# Altium schematic symbol library kmilo17pet-LT_PMIC_LT.SchLib: 2252 symbols (part 62 of 124)
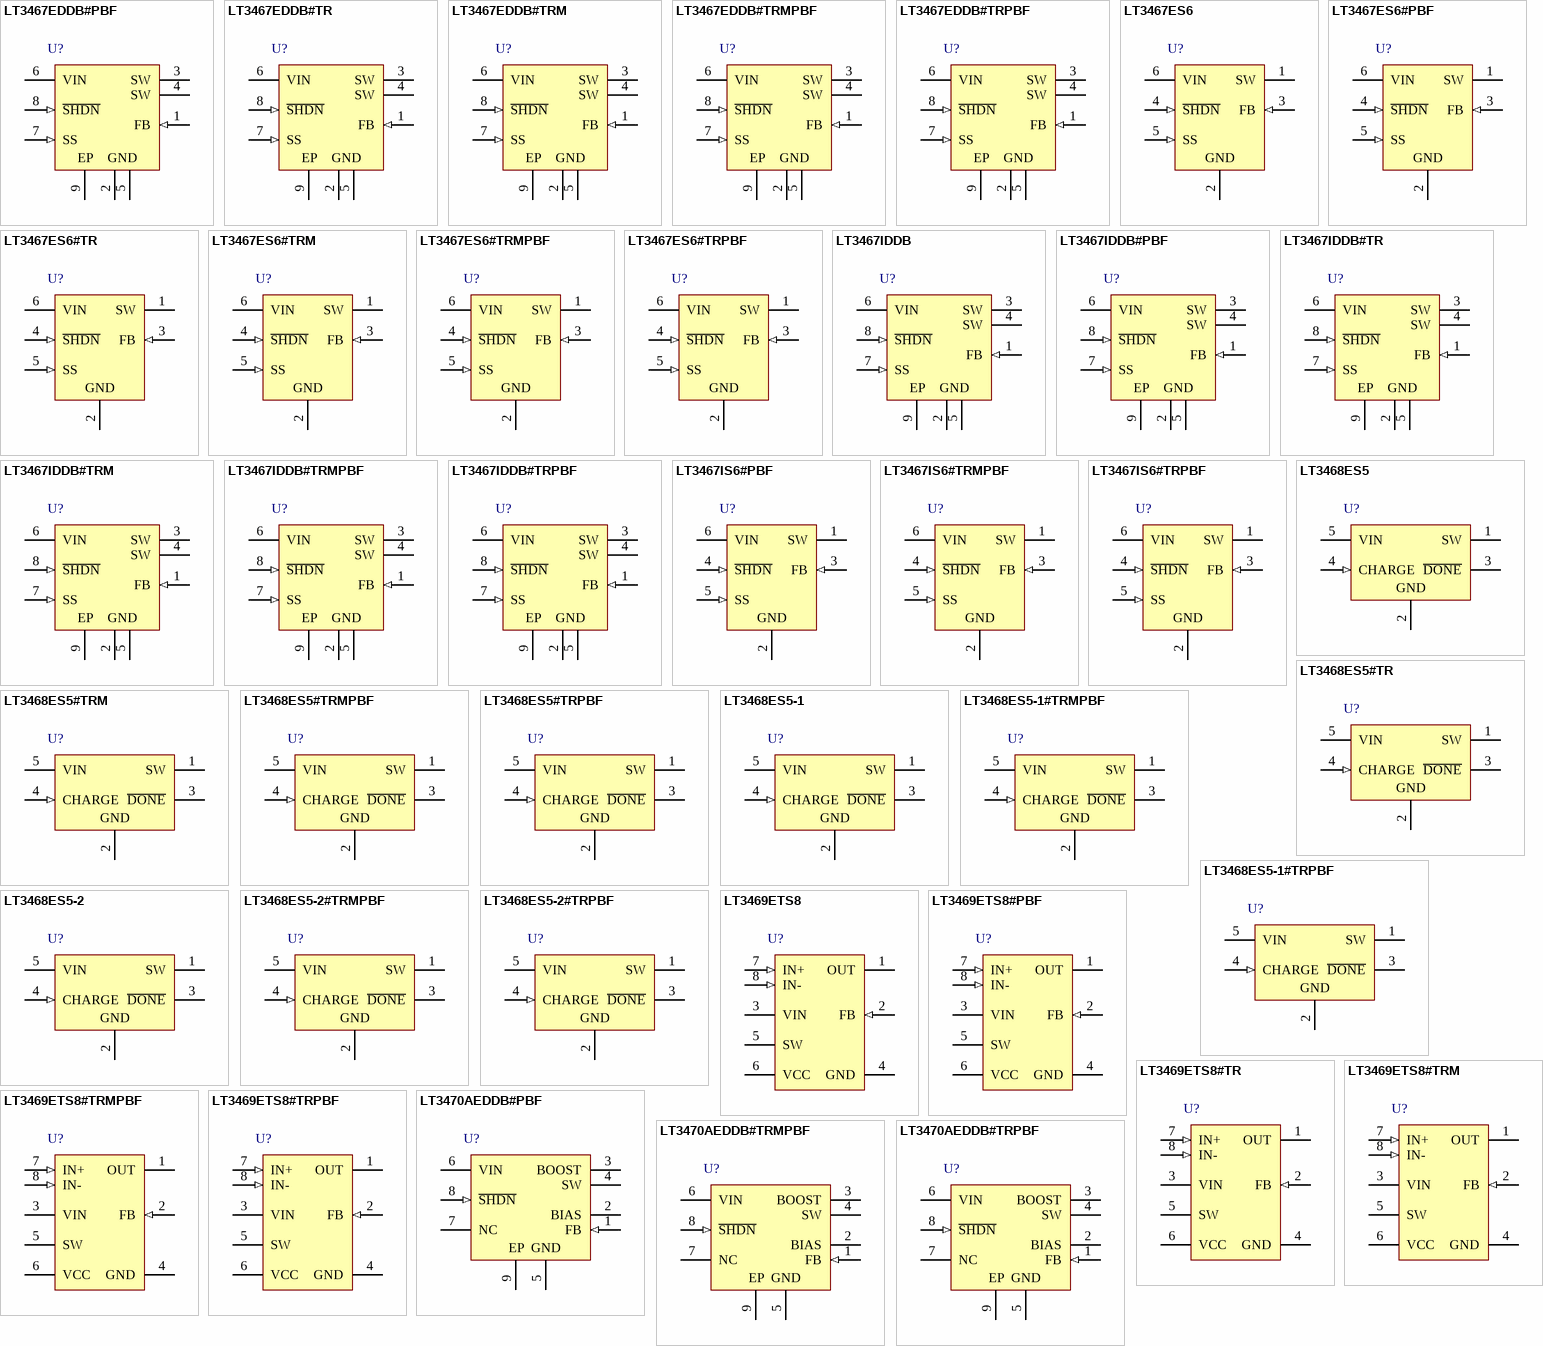
[diagram p132: symbols LT3467EDDB#PBF to LT3470AEDDB#TRPBF]

## LT3467ES6#TRPBF
designator U?
1.1 A Step-Up DC/DC Converter with Integrated Soft-Start MAX, 6-pin SOT23 (S6-6), -40 to 85 degC, Pb-Free, Tape and Reel; Manufacturer: Linear Technology; PartNumber: LT3467ES6#TRPBF; Number of Outputs: 1; PackageReference: S6-6; PackageDescription: 6-Pin Plastic TSOT-23, Body 2.9 x 1.63 mm, Pitch 0.95 mm; Supplier 1: Digi-Key; Supplier Part Number 1: LT3467ES6#TRPBF-ND; RoHS: TRUE
footprint LT-S6-6-TSOT-23_N (SOT23, 6-Leads, Body 2.9x1.75mm, Pitch 0.95mm, IPC Medium Density)
footprint LT-S6-6-TSOT-23_L (SOT23, 6-Leads, Body 2.9x1.75mm, Pitch 0.95mm, IPC High Density)
footprint LT-S6-6-TSOT-23_M (SOT23, 6-Leads, Body 2.9x1.75mm, Pitch 0.95mm, IPC Low Density)
pins: 1 SW (power) "Switch Pin. (Collector of internal NPN power switch) Connect inductor/diode here and minimize the metal trace area connected to this pin to minimize EMI.", 2 GND (power) "Ground. Tie directly to local ground plane.", 3 FB (in) "Feedback Pin. Reference voltage is 1.255V. Connect resistive divider tap here. Minimize trace area at FB. Set VOUT = 1.255V(1 + R1/R2).", 4 ~{SHDN} (in) "Shutdown Pin. Tie to 2.4V or more to enable device. Ground to shut down.", 5 SS (in) "Soft-Start Pin. Place a soft-start capacitor here. Upon start-up, 4uA of current charges the capacitor to 1.255V. Use a larger capacitor for slower start-up. Leave floating if not in use.", 6 VIN (power) "Input Supply Pin. Must be locally bypassed."

## LT3467IDDB
designator U?
1.1 A Step-Up DC/DC Converter with Integrated Soft-Start MAX, 8-pin SON (DDB-8), -40 to 125 degC; Manufacturer: Linear Technology; PartNumber: LT3467IDDB; Number of Outputs: 1; PackageReference: DDB-8; PackageDescription: 8-Pin Plastic DFN, Body 3 x 2 mm, Pitch 0.5 mm; RoHS: FALSE
footprint LT-DDB-8_V (SON, 8-Leads, Body 3x2mm, Pitch 0.5mm, Thermal Pad 2.2x0.61mm)
pins: 1 FB (in) "Feedback Pin. Reference voltage is 1.255V. Connect resistive divider tap here. Minimize trace area at  FB. Set VOUT = 1.255V(1 + R1/R2).", 2 GND (power) "Ground. Tie directly to local  ground plane.", 3 SW (power) "Switch Pin. (Collector of internal NPN power switch) Connect inductor/diode here and  minimize the metal trace area connected to this pin to minimize EMI.", 4 SW (power) "Switch Pin. (Collector of internal NPN power switch) Connect inductor/diode here and  minimize the metal trace area connected to this pin to minimize EMI.", 5 GND (power) "Ground. Tie directly to local  ground plane.", 6 VIN (power) "Input Supply Pin. Must be locally bypassed.", 7 SS (in) "Soft-Start Pin. Place a soft-start capacitor here. Upon start-up, 4uA of current charges the capacitor to 1.255V. Use a larger capacitor for slower start-up. Leave floating if not in use.", 8 ~{SHDN} (in) "Shutdown Pin. Tie to 2.4V or more to enable device. Ground to shut down.", 9 EP (power) "Ground. Tie directly to local ground plane."

## LT3467IDDB#PBF
designator U?
1.1 A Step-Up DC/DC Converter with Integrated Soft-Start MAX, 8-pin SON (DDB-8), -40 to 125 degC, Pb-Free; Manufacturer: Linear Technology; PartNumber: LT3467IDDB#PBF; Number of Outputs: 1; PackageReference: DDB-8; PackageDescription: 8-Pin Plastic DFN, Body 3 x 2 mm, Pitch 0.5 mm; Supplier 1: Farnell; Supplier Part Number 1: 2294901; RoHS: TRUE
footprint LT-DDB-8_V (SON, 8-Leads, Body 3x2mm, Pitch 0.5mm, Thermal Pad 2.2x0.61mm)
pins: 1 FB (in) "Feedback Pin. Reference voltage is 1.255V. Connect resistive divider tap here. Minimize trace area at  FB. Set VOUT = 1.255V(1 + R1/R2).", 2 GND (power) "Ground. Tie directly to local  ground plane.", 3 SW (power) "Switch Pin. (Collector of internal NPN power switch) Connect inductor/diode here and  minimize the metal trace area connected to this pin to minimize EMI.", 4 SW (power) "Switch Pin. (Collector of internal NPN power switch) Connect inductor/diode here and  minimize the metal trace area connected to this pin to minimize EMI.", 5 GND (power) "Ground. Tie directly to local  ground plane.", 6 VIN (power) "Input Supply Pin. Must be locally bypassed.", 7 SS (in) "Soft-Start Pin. Place a soft-start capacitor here. Upon start-up, 4uA of current charges the capacitor to 1.255V. Use a larger capacitor for slower start-up. Leave floating if not in use.", 8 ~{SHDN} (in) "Shutdown Pin. Tie to 2.4V or more to enable device. Ground to shut down.", 9 EP (power) "Ground. Tie directly to local ground plane."

## LT3467IDDB#TR
designator U?
1.1 A Step-Up DC/DC Converter with Integrated Soft-Start MAX, 8-pin SON (DDB-8), -40 to 125 degC, Tape and Reel; Manufacturer: Linear Technology; PartNumber: LT3467IDDB#TR; Number of Outputs: 1; PackageReference: DDB-8; PackageDescription: 8-Pin Plastic DFN, Body 3 x 2 mm, Pitch 0.5 mm; RoHS: FALSE
footprint LT-DDB-8_V (SON, 8-Leads, Body 3x2mm, Pitch 0.5mm, Thermal Pad 2.2x0.61mm)
pins: 1 FB (in) "Feedback Pin. Reference voltage is 1.255V. Connect resistive divider tap here. Minimize trace area at  FB. Set VOUT = 1.255V(1 + R1/R2).", 2 GND (power) "Ground. Tie directly to local  ground plane.", 3 SW (power) "Switch Pin. (Collector of internal NPN power switch) Connect inductor/diode here and  minimize the metal trace area connected to this pin to minimize EMI.", 4 SW (power) "Switch Pin. (Collector of internal NPN power switch) Connect inductor/diode here and  minimize the metal trace area connected to this pin to minimize EMI.", 5 GND (power) "Ground. Tie directly to local  ground plane.", 6 VIN (power) "Input Supply Pin. Must be locally bypassed.", 7 SS (in) "Soft-Start Pin. Place a soft-start capacitor here. Upon start-up, 4uA of current charges the capacitor to 1.255V. Use a larger capacitor for slower start-up. Leave floating if not in use.", 8 ~{SHDN} (in) "Shutdown Pin. Tie to 2.4V or more to enable device. Ground to shut down.", 9 EP (power) "Ground. Tie directly to local ground plane."

## LT3467IDDB#TRM
designator U?
1.1 A Step-Up DC/DC Converter with Integrated Soft-Start MAX, 8-pin SON (DDB-8), -40 to 125 degC, Mini Tape and Reel; Manufacturer: Linear Technology; PartNumber: LT3467IDDB#TRM; Number of Outputs: 1; PackageReference: DDB-8; PackageDescription: 8-Pin Plastic DFN, Body 3 x 2 mm, Pitch 0.5 mm; RoHS: FALSE
footprint LT-DDB-8_V (SON, 8-Leads, Body 3x2mm, Pitch 0.5mm, Thermal Pad 2.2x0.61mm)
pins: 1 FB (in) "Feedback Pin. Reference voltage is 1.255V. Connect resistive divider tap here. Minimize trace area at  FB. Set VOUT = 1.255V(1 + R1/R2).", 2 GND (power) "Ground. Tie directly to local  ground plane.", 3 SW (power) "Switch Pin. (Collector of internal NPN power switch) Connect inductor/diode here and  minimize the metal trace area connected to this pin to minimize EMI.", 4 SW (power) "Switch Pin. (Collector of internal NPN power switch) Connect inductor/diode here and  minimize the metal trace area connected to this pin to minimize EMI.", 5 GND (power) "Ground. Tie directly to local  ground plane.", 6 VIN (power) "Input Supply Pin. Must be locally bypassed.", 7 SS (in) "Soft-Start Pin. Place a soft-start capacitor here. Upon start-up, 4uA of current charges the capacitor to 1.255V. Use a larger capacitor for slower start-up. Leave floating if not in use.", 8 ~{SHDN} (in) "Shutdown Pin. Tie to 2.4V or more to enable device. Ground to shut down.", 9 EP (power) "Ground. Tie directly to local ground plane."

## LT3467IDDB#TRMPBF
designator U?
1.1 A Step-Up DC/DC Converter with Integrated Soft-Start MAX, 8-pin SON (DDB-8), -40 to 125 degC, Pb-Free, Mini Tape and Reel; Manufacturer: Linear Technology; PartNumber: LT3467IDDB#TRMPBF; Number of Outputs: 1; PackageReference: DDB-8; PackageDescription: 8-Pin Plastic DFN, Body 3 x 2 mm, Pitch 0.5 mm; Supplier 1: Digi-Key; Supplier Part Number 1: LT3467IDDB#TRMPBF-ND; RoHS: TRUE
footprint LT-DDB-8_V (SON, 8-Leads, Body 3x2mm, Pitch 0.5mm, Thermal Pad 2.2x0.61mm)
pins: 1 FB (in) "Feedback Pin. Reference voltage is 1.255V. Connect resistive divider tap here. Minimize trace area at  FB. Set VOUT = 1.255V(1 + R1/R2).", 2 GND (power) "Ground. Tie directly to local  ground plane.", 3 SW (power) "Switch Pin. (Collector of internal NPN power switch) Connect inductor/diode here and  minimize the metal trace area connected to this pin to minimize EMI.", 4 SW (power) "Switch Pin. (Collector of internal NPN power switch) Connect inductor/diode here and  minimize the metal trace area connected to this pin to minimize EMI.", 5 GND (power) "Ground. Tie directly to local  ground plane.", 6 VIN (power) "Input Supply Pin. Must be locally bypassed.", 7 SS (in) "Soft-Start Pin. Place a soft-start capacitor here. Upon start-up, 4uA of current charges the capacitor to 1.255V. Use a larger capacitor for slower start-up. Leave floating if not in use.", 8 ~{SHDN} (in) "Shutdown Pin. Tie to 2.4V or more to enable device. Ground to shut down.", 9 EP (power) "Ground. Tie directly to local ground plane."

## LT3467IDDB#TRPBF
designator U?
1.1 A Step-Up DC/DC Converter with Integrated Soft-Start MAX, 8-pin SON (DDB-8), -40 to 125 degC, Pb-Free, Tape and Reel; Manufacturer: Linear Technology; PartNumber: LT3467IDDB#TRPBF; Number of Outputs: 1; PackageReference: DDB-8; PackageDescription: 8-Pin Plastic DFN, Body 3 x 2 mm, Pitch 0.5 mm; Supplier 1: Digi-Key; Supplier Part Number 1: LT3467IDDB#TRPBF-ND; RoHS: TRUE
footprint LT-DDB-8_V (SON, 8-Leads, Body 3x2mm, Pitch 0.5mm, Thermal Pad 2.2x0.61mm)
pins: 1 FB (in) "Feedback Pin. Reference voltage is 1.255V. Connect resistive divider tap here. Minimize trace area at  FB. Set VOUT = 1.255V(1 + R1/R2).", 2 GND (power) "Ground. Tie directly to local  ground plane.", 3 SW (power) "Switch Pin. (Collector of internal NPN power switch) Connect inductor/diode here and  minimize the metal trace area connected to this pin to minimize EMI.", 4 SW (power) "Switch Pin. (Collector of internal NPN power switch) Connect inductor/diode here and  minimize the metal trace area connected to this pin to minimize EMI.", 5 GND (power) "Ground. Tie directly to local  ground plane.", 6 VIN (power) "Input Supply Pin. Must be locally bypassed.", 7 SS (in) "Soft-Start Pin. Place a soft-start capacitor here. Upon start-up, 4uA of current charges the capacitor to 1.255V. Use a larger capacitor for slower start-up. Leave floating if not in use.", 8 ~{SHDN} (in) "Shutdown Pin. Tie to 2.4V or more to enable device. Ground to shut down.", 9 EP (power) "Ground. Tie directly to local ground plane."

## LT3467IS6#PBF
designator U?
1.1 A Step-Up DC/DC Converter with Integrated Soft-Start MAX, 6-pin SOT23 (S6-6), -40 to 125 degC, Pb-Free; Manufacturer: Linear Technology; PartNumber: LT3467IS6#PBF; Number of Outputs: 1; PackageReference: S6-6; PackageDescription: 6-Pin Plastic TSOT-23, Body 2.9 x 1.63 mm, Pitch 0.95 mm; Supplier 1: Farnell; Supplier Part Number 1: 2294902; RoHS: TRUE
footprint LT-S6-6-TSOT-23_N (SOT23, 6-Leads, Body 2.9x1.75mm, Pitch 0.95mm, IPC Medium Density)
footprint LT-S6-6-TSOT-23_L (SOT23, 6-Leads, Body 2.9x1.75mm, Pitch 0.95mm, IPC High Density)
footprint LT-S6-6-TSOT-23_M (SOT23, 6-Leads, Body 2.9x1.75mm, Pitch 0.95mm, IPC Low Density)
pins: 1 SW (power) "Switch Pin. (Collector of internal NPN power switch) Connect inductor/diode here and minimize the metal trace area connected to this pin to minimize EMI.", 2 GND (power) "Ground. Tie directly to local ground plane.", 3 FB (in) "Feedback Pin. Reference voltage is 1.255V. Connect resistive divider tap here. Minimize trace area at FB. Set VOUT = 1.255V(1 + R1/R2).", 4 ~{SHDN} (in) "Shutdown Pin. Tie to 2.4V or more to enable device. Ground to shut down.", 5 SS (in) "Soft-Start Pin. Place a soft-start capacitor here. Upon start-up, 4uA of current charges the capacitor to 1.255V. Use a larger capacitor for slower start-up. Leave floating if not in use.", 6 VIN (power) "Input Supply Pin. Must be locally bypassed."

## LT3467IS6#TRMPBF
designator U?
1.1 A Step-Up DC/DC Converter with Integrated Soft-Start MAX, 6-pin SOT23 (S6-6), -40 to 125 degC, Pb-Free, Mini Tape and Reel; Manufacturer: Linear Technology; PartNumber: LT3467IS6#TRMPBF; Number of Outputs: 1; PackageReference: S6-6; PackageDescription: 6-Pin Plastic TSOT-23, Body 2.9 x 1.63 mm, Pitch 0.95 mm; Supplier 1: Digi-Key; Supplier Part Number 1: LT3467IS6#TRMPBFTR-ND; RoHS: TRUE
footprint LT-S6-6-TSOT-23_N (SOT23, 6-Leads, Body 2.9x1.75mm, Pitch 0.95mm, IPC Medium Density)
footprint LT-S6-6-TSOT-23_L (SOT23, 6-Leads, Body 2.9x1.75mm, Pitch 0.95mm, IPC High Density)
footprint LT-S6-6-TSOT-23_M (SOT23, 6-Leads, Body 2.9x1.75mm, Pitch 0.95mm, IPC Low Density)
pins: 1 SW (power) "Switch Pin. (Collector of internal NPN power switch) Connect inductor/diode here and minimize the metal trace area connected to this pin to minimize EMI.", 2 GND (power) "Ground. Tie directly to local ground plane.", 3 FB (in) "Feedback Pin. Reference voltage is 1.255V. Connect resistive divider tap here. Minimize trace area at FB. Set VOUT = 1.255V(1 + R1/R2).", 4 ~{SHDN} (in) "Shutdown Pin. Tie to 2.4V or more to enable device. Ground to shut down.", 5 SS (in) "Soft-Start Pin. Place a soft-start capacitor here. Upon start-up, 4uA of current charges the capacitor to 1.255V. Use a larger capacitor for slower start-up. Leave floating if not in use.", 6 VIN (power) "Input Supply Pin. Must be locally bypassed."

## LT3467IS6#TRPBF
designator U?
1.1 A Step-Up DC/DC Converter with Integrated Soft-Start MAX, 6-pin SOT23 (S6-6), -40 to 125 degC, Pb-Free, Tape and Reel; Manufacturer: Linear Technology; PartNumber: LT3467IS6#TRPBF; Number of Outputs: 1; PackageReference: S6-6; PackageDescription: 6-Pin Plastic TSOT-23, Body 2.9 x 1.63 mm, Pitch 0.95 mm; Supplier 1: Digi-Key; Supplier Part Number 1: LT3467IS6#TRPBF-ND; RoHS: TRUE
footprint LT-S6-6-TSOT-23_N (SOT23, 6-Leads, Body 2.9x1.75mm, Pitch 0.95mm, IPC Medium Density)
footprint LT-S6-6-TSOT-23_L (SOT23, 6-Leads, Body 2.9x1.75mm, Pitch 0.95mm, IPC High Density)
footprint LT-S6-6-TSOT-23_M (SOT23, 6-Leads, Body 2.9x1.75mm, Pitch 0.95mm, IPC Low Density)
pins: 1 SW (power) "Switch Pin. (Collector of internal NPN power switch) Connect inductor/diode here and minimize the metal trace area connected to this pin to minimize EMI.", 2 GND (power) "Ground. Tie directly to local ground plane.", 3 FB (in) "Feedback Pin. Reference voltage is 1.255V. Connect resistive divider tap here. Minimize trace area at FB. Set VOUT = 1.255V(1 + R1/R2).", 4 ~{SHDN} (in) "Shutdown Pin. Tie to 2.4V or more to enable device. Ground to shut down.", 5 SS (in) "Soft-Start Pin. Place a soft-start capacitor here. Upon start-up, 4uA of current charges the capacitor to 1.255V. Use a larger capacitor for slower start-up. Leave floating if not in use.", 6 VIN (power) "Input Supply Pin. Must be locally bypassed."

## LT3468ES5
designator U?
Photoflash Capacitor Charger, 5-pin SOT23 (S5-5), -40 to 85 degC; Manufacturer: Linear Technology; PartNumber: LT3468ES5; Number of Outputs: 1; PackageReference: S5-5; PackageDescription: 5-Pin Plastic TSOT-23, Body 1.63 x 2.90 mm, Pitch 0.95 mm; RoHS: FALSE
footprint LT-S5-5-TSOT-23_N (SOT23, 5-Leads, Body 2.90x1.63mm, Pitch 0.95mm, IPC Medium Density)
footprint LT-S5-5-TSOT-23_L (SOT23, 5-Leads, Body 2.90x1.63mm, Pitch 0.95mm, IPC High Density)
footprint LT-S5-5-TSOT-23_M (SOT23, 5-Leads, Body 2.90x1.63mm, Pitch 0.95mm, IPC Low Density)
pins: 1 SW (power) "Switch Pin. This is the collector of the internal NPN Power switch. Minimize the metal trace area connected to this pin to minimize EMI. Tie one side of the primary of the transformer to this pin. The target output voltage (See Datasheet)", 2 GND (power) "Ground. Tie directly to local ground plane", 3 ~{DONE} (oc) "Open NPN Collector Indication Pin. When target output voltage is reached, NPN turns on. This pin needs a pull-up resistor or current source", 4 CHARGE (in) "Charge Pin. This pin must be brought high (>1V) to enable the part. A low (<0.3V) to high (>1V) transition on this pin puts the part into power delivery mode. Once the target output voltage is reached, the part will stop (See Datasheet)", 5 VIN (power) "Input Supply Pin. Must be locally bypassed with a good quality ceramic capacitor. Input supply must be 2.5V or higher."

## LT3468ES5#TR
designator U?
Photoflash Capacitor Charger, 5-pin SOT23 (S5-5), -40 to 85 degC, Tape and Reel; Manufacturer: Linear Technology; PartNumber: LT3468ES5#TR; Number of Outputs: 1; PackageReference: S5-5; PackageDescription: 5-Pin Plastic TSOT-23, Body 1.63 x 2.90 mm, Pitch 0.95 mm; Supplier 1: Digi-Key; Supplier Part Number 1: LT3468ES5#TR-ND; RoHS: FALSE
footprint LT-S5-5-TSOT-23_N (SOT23, 5-Leads, Body 2.90x1.63mm, Pitch 0.95mm, IPC Medium Density)
footprint LT-S5-5-TSOT-23_L (SOT23, 5-Leads, Body 2.90x1.63mm, Pitch 0.95mm, IPC High Density)
footprint LT-S5-5-TSOT-23_M (SOT23, 5-Leads, Body 2.90x1.63mm, Pitch 0.95mm, IPC Low Density)
pins: 1 SW (power) "Switch Pin. This is the collector of the internal NPN Power switch. Minimize the metal trace area connected to this pin to minimize EMI. Tie one side of the primary of the transformer to this pin. The target output voltage (See Datasheet)", 2 GND (power) "Ground. Tie directly to local ground plane", 3 ~{DONE} (oc) "Open NPN Collector Indication Pin. When target output voltage is reached, NPN turns on. This pin needs a pull-up resistor or current source", 4 CHARGE (in) "Charge Pin. This pin must be brought high (>1V) to enable the part. A low (<0.3V) to high (>1V) transition on this pin puts the part into power delivery mode. Once the target output voltage is reached, the part will stop (See Datasheet)", 5 VIN (power) "Input Supply Pin. Must be locally bypassed with a good quality ceramic capacitor. Input supply must be 2.5V or higher."

## LT3468ES5#TRM
designator U?
Photoflash Capacitor Charger, 5-pin SOT23 (S5-5), -40 to 85 degC, Mini Tape and Reel; Manufacturer: Linear Technology; PartNumber: LT3468ES5#TRM; Number of Outputs: 1; PackageReference: S5-5; PackageDescription: 5-Pin Plastic TSOT-23, Body 1.63 x 2.90 mm, Pitch 0.95 mm; Supplier 1: Digi-Key; Supplier Part Number 1: LT3468ES5#TRMTR-ND; RoHS: FALSE
footprint LT-S5-5-TSOT-23_N (SOT23, 5-Leads, Body 2.90x1.63mm, Pitch 0.95mm, IPC Medium Density)
footprint LT-S5-5-TSOT-23_L (SOT23, 5-Leads, Body 2.90x1.63mm, Pitch 0.95mm, IPC High Density)
footprint LT-S5-5-TSOT-23_M (SOT23, 5-Leads, Body 2.90x1.63mm, Pitch 0.95mm, IPC Low Density)
pins: 1 SW (power) "Switch Pin. This is the collector of the internal NPN Power switch. Minimize the metal trace area connected to this pin to minimize EMI. Tie one side of the primary of the transformer to this pin. The target output voltage (See Datasheet)", 2 GND (power) "Ground. Tie directly to local ground plane", 3 ~{DONE} (oc) "Open NPN Collector Indication Pin. When target output voltage is reached, NPN turns on. This pin needs a pull-up resistor or current source", 4 CHARGE (in) "Charge Pin. This pin must be brought high (>1V) to enable the part. A low (<0.3V) to high (>1V) transition on this pin puts the part into power delivery mode. Once the target output voltage is reached, the part will stop (See Datasheet)", 5 VIN (power) "Input Supply Pin. Must be locally bypassed with a good quality ceramic capacitor. Input supply must be 2.5V or higher."

## LT3468ES5#TRMPBF
designator U?
Photoflash Capacitor Charger, 5-pin SOT23 (S5-5), -40 to 85 degC, Pb-Free, Mini Tape and Reel; Manufacturer: Linear Technology; PartNumber: LT3468ES5#TRMPBF; Number of Outputs: 1; PackageReference: S5-5; PackageDescription: 5-Pin Plastic TSOT-23, Body 1.63 x 2.90 mm, Pitch 0.95 mm; Supplier 1: Digi-Key; Supplier Part Number 1: LT3468ES5#TRMPBFTR-ND; RoHS: TRUE
footprint LT-S5-5-TSOT-23_N (SOT23, 5-Leads, Body 2.90x1.63mm, Pitch 0.95mm, IPC Medium Density)
footprint LT-S5-5-TSOT-23_L (SOT23, 5-Leads, Body 2.90x1.63mm, Pitch 0.95mm, IPC High Density)
footprint LT-S5-5-TSOT-23_M (SOT23, 5-Leads, Body 2.90x1.63mm, Pitch 0.95mm, IPC Low Density)
pins: 1 SW (power) "Switch Pin. This is the collector of the internal NPN Power switch. Minimize the metal trace area connected to this pin to minimize EMI. Tie one side of the primary of the transformer to this pin. The target output voltage (See Datasheet)", 2 GND (power) "Ground. Tie directly to local ground plane", 3 ~{DONE} (oc) "Open NPN Collector Indication Pin. When target output voltage is reached, NPN turns on. This pin needs a pull-up resistor or current source", 4 CHARGE (in) "Charge Pin. This pin must be brought high (>1V) to enable the part. A low (<0.3V) to high (>1V) transition on this pin puts the part into power delivery mode. Once the target output voltage is reached, the part will stop (See Datasheet)", 5 VIN (power) "Input Supply Pin. Must be locally bypassed with a good quality ceramic capacitor. Input supply must be 2.5V or higher."

## LT3468ES5#TRPBF
designator U?
Photoflash Capacitor Charger, 5-pin SOT23 (S5-5), -40 to 85 degC, Pb-Free, Tape and Reel; Manufacturer: Linear Technology; PartNumber: LT3468ES5#TRPBF; Number of Outputs: 1; PackageReference: S5-5; PackageDescription: 5-Pin Plastic TSOT-23, Body 1.63 x 2.90 mm, Pitch 0.95 mm; Supplier 1: Digi-Key; Supplier Part Number 1: LT3468ES5#TRPBF-ND; RoHS: TRUE
footprint LT-S5-5-TSOT-23_N (SOT23, 5-Leads, Body 2.90x1.63mm, Pitch 0.95mm, IPC Medium Density)
footprint LT-S5-5-TSOT-23_L (SOT23, 5-Leads, Body 2.90x1.63mm, Pitch 0.95mm, IPC High Density)
footprint LT-S5-5-TSOT-23_M (SOT23, 5-Leads, Body 2.90x1.63mm, Pitch 0.95mm, IPC Low Density)
pins: 1 SW (power) "Switch Pin. This is the collector of the internal NPN Power switch. Minimize the metal trace area connected to this pin to minimize EMI. Tie one side of the primary of the transformer to this pin. The target output voltage (See Datasheet)", 2 GND (power) "Ground. Tie directly to local ground plane", 3 ~{DONE} (oc) "Open NPN Collector Indication Pin. When target output voltage is reached, NPN turns on. This pin needs a pull-up resistor or current source", 4 CHARGE (in) "Charge Pin. This pin must be brought high (>1V) to enable the part. A low (<0.3V) to high (>1V) transition on this pin puts the part into power delivery mode. Once the target output voltage is reached, the part will stop (See Datasheet)", 5 VIN (power) "Input Supply Pin. Must be locally bypassed with a good quality ceramic capacitor. Input supply must be 2.5V or higher."

## LT3468ES5-1
designator U?
Photoflash Capacitor Charger, 5-pin SOT23 (S5-5), -40 to 85 degC; Manufacturer: Linear Technology; PartNumber: LT3468ES5-1; Number of Outputs: 1; PackageReference: S5-5; PackageDescription: 5-Pin Plastic TSOT-23, Body 1.63 x 2.90 mm, Pitch 0.95 mm; RoHS: FALSE
footprint LT-S5-5-TSOT-23_N (SOT23, 5-Leads, Body 2.90x1.63mm, Pitch 0.95mm, IPC Medium Density)
footprint LT-S5-5-TSOT-23_L (SOT23, 5-Leads, Body 2.90x1.63mm, Pitch 0.95mm, IPC High Density)
footprint LT-S5-5-TSOT-23_M (SOT23, 5-Leads, Body 2.90x1.63mm, Pitch 0.95mm, IPC Low Density)
pins: 1 SW (power) "Switch Pin. This is the collector of the internal NPN Power switch. Minimize the metal trace area connected to this pin to minimize EMI. Tie one side of the primary of the transformer to this pin. The target output voltage (See Datasheet)", 2 GND (power) "Ground. Tie directly to local ground plane", 3 ~{DONE} (oc) "Open NPN Collector Indication Pin. When target output voltage is reached, NPN turns on. This pin needs a pull-up resistor or current source", 4 CHARGE (in) "Charge Pin. This pin must be brought high (>1V) to enable the part. A low (<0.3V) to high (>1V) transition on this pin puts the part into power delivery mode. Once the target output voltage is reached, the part will stop (See Datasheet)", 5 VIN (power) "Input Supply Pin. Must be locally bypassed with a good quality ceramic capacitor. Input supply must be 2.5V or higher."

## LT3468ES5-1#TRMPBF
designator U?
Photoflash Capacitor Charger, 5-pin SOT23 (S5-5), -40 to 85 degC, Pb-Free, Mini Tape and Reel; Manufacturer: Linear Technology; PartNumber: LT3468ES5-1#TRMPBF; Number of Outputs: 1; PackageReference: S5-5; PackageDescription: 5-Pin Plastic TSOT-23, Body 1.63 x 2.90 mm, Pitch 0.95 mm; Supplier 1: Digi-Key; Supplier Part Number 1: LT3468ES5-1#TRMPBF-ND; RoHS: TRUE
footprint LT-S5-5-TSOT-23_N (SOT23, 5-Leads, Body 2.90x1.63mm, Pitch 0.95mm, IPC Medium Density)
footprint LT-S5-5-TSOT-23_L (SOT23, 5-Leads, Body 2.90x1.63mm, Pitch 0.95mm, IPC High Density)
footprint LT-S5-5-TSOT-23_M (SOT23, 5-Leads, Body 2.90x1.63mm, Pitch 0.95mm, IPC Low Density)
pins: 1 SW (power) "Switch Pin. This is the collector of the internal NPN Power switch. Minimize the metal trace area connected to this pin to minimize EMI. Tie one side of the primary of the transformer to this pin. The target output voltage (See Datasheet)", 2 GND (power) "Ground. Tie directly to local ground plane", 3 ~{DONE} (oc) "Open NPN Collector Indication Pin. When target output voltage is reached, NPN turns on. This pin needs a pull-up resistor or current source", 4 CHARGE (in) "Charge Pin. This pin must be brought high (>1V) to enable the part. A low (<0.3V) to high (>1V) transition on this pin puts the part into power delivery mode. Once the target output voltage is reached, the part will stop (See Datasheet)", 5 VIN (power) "Input Supply Pin. Must be locally bypassed with a good quality ceramic capacitor. Input supply must be 2.5V or higher."

## LT3468ES5-1#TRPBF
designator U?
Photoflash Capacitor Charger, 5-pin SOT23 (S5-5), -40 to 85 degC, Pb-Free, Tape and Reel; Manufacturer: Linear Technology; PartNumber: LT3468ES5-1#TRPBF; Number of Outputs: 1; PackageReference: S5-5; PackageDescription: 5-Pin Plastic TSOT-23, Body 1.63 x 2.90 mm, Pitch 0.95 mm; Supplier 1: Digi-Key; Supplier Part Number 1: LT3468ES5-1#TRPBF-ND; RoHS: TRUE
footprint LT-S5-5-TSOT-23_N (SOT23, 5-Leads, Body 2.90x1.63mm, Pitch 0.95mm, IPC Medium Density)
footprint LT-S5-5-TSOT-23_L (SOT23, 5-Leads, Body 2.90x1.63mm, Pitch 0.95mm, IPC High Density)
footprint LT-S5-5-TSOT-23_M (SOT23, 5-Leads, Body 2.90x1.63mm, Pitch 0.95mm, IPC Low Density)
pins: 1 SW (power) "Switch Pin. This is the collector of the internal NPN Power switch. Minimize the metal trace area connected to this pin to minimize EMI. Tie one side of the primary of the transformer to this pin. The target output voltage (See Datasheet)", 2 GND (power) "Ground. Tie directly to local ground plane", 3 ~{DONE} (oc) "Open NPN Collector Indication Pin. When target output voltage is reached, NPN turns on. This pin needs a pull-up resistor or current source", 4 CHARGE (in) "Charge Pin. This pin must be brought high (>1V) to enable the part. A low (<0.3V) to high (>1V) transition on this pin puts the part into power delivery mode. Once the target output voltage is reached, the part will stop (See Datasheet)", 5 VIN (power) "Input Supply Pin. Must be locally bypassed with a good quality ceramic capacitor. Input supply must be 2.5V or higher."

## LT3468ES5-2
designator U?
Photoflash Capacitor Charger, 5-pin SOT23 (S5-5), -40 to 85 degC; Manufacturer: Linear Technology; PartNumber: LT3468ES5-2; Number of Outputs: 1; PackageReference: S5-5; PackageDescription: 5-Pin Plastic TSOT-23, Body 1.63 x 2.90 mm, Pitch 0.95 mm; RoHS: FALSE
footprint LT-S5-5-TSOT-23_N (SOT23, 5-Leads, Body 2.90x1.63mm, Pitch 0.95mm, IPC Medium Density)
footprint LT-S5-5-TSOT-23_L (SOT23, 5-Leads, Body 2.90x1.63mm, Pitch 0.95mm, IPC High Density)
footprint LT-S5-5-TSOT-23_M (SOT23, 5-Leads, Body 2.90x1.63mm, Pitch 0.95mm, IPC Low Density)
pins: 1 SW (power) "Switch Pin. This is the collector of the internal NPN Power switch. Minimize the metal trace area connected to this pin to minimize EMI. Tie one side of the primary of the transformer to this pin. The target output voltage (See Datasheet)", 2 GND (power) "Ground. Tie directly to local ground plane", 3 ~{DONE} (oc) "Open NPN Collector Indication Pin. When target output voltage is reached, NPN turns on. This pin needs a pull-up resistor or current source", 4 CHARGE (in) "Charge Pin. This pin must be brought high (>1V) to enable the part. A low (<0.3V) to high (>1V) transition on this pin puts the part into power delivery mode. Once the target output voltage is reached, the part will stop (See Datasheet)", 5 VIN (power) "Input Supply Pin. Must be locally bypassed with a good quality ceramic capacitor. Input supply must be 2.5V or higher."

## LT3468ES5-2#TRMPBF
designator U?
Photoflash Capacitor Charger, 5-pin SOT23 (S5-5), -40 to 85 degC, Pb-Free, Mini Tape and Reel; Manufacturer: Linear Technology; PartNumber: LT3468ES5-2#TRMPBF; Number of Outputs: 1; PackageReference: S5-5; PackageDescription: 5-Pin Plastic TSOT-23, Body 1.63 x 2.90 mm, Pitch 0.95 mm; Supplier 1: Digi-Key; Supplier Part Number 1: LT3468ES5-2#TRMPBF-ND; RoHS: TRUE
footprint LT-S5-5-TSOT-23_N (SOT23, 5-Leads, Body 2.90x1.63mm, Pitch 0.95mm, IPC Medium Density)
footprint LT-S5-5-TSOT-23_L (SOT23, 5-Leads, Body 2.90x1.63mm, Pitch 0.95mm, IPC High Density)
footprint LT-S5-5-TSOT-23_M (SOT23, 5-Leads, Body 2.90x1.63mm, Pitch 0.95mm, IPC Low Density)
pins: 1 SW (power) "Switch Pin. This is the collector of the internal NPN Power switch. Minimize the metal trace area connected to this pin to minimize EMI. Tie one side of the primary of the transformer to this pin. The target output voltage (See Datasheet)", 2 GND (power) "Ground. Tie directly to local ground plane", 3 ~{DONE} (oc) "Open NPN Collector Indication Pin. When target output voltage is reached, NPN turns on. This pin needs a pull-up resistor or current source", 4 CHARGE (in) "Charge Pin. This pin must be brought high (>1V) to enable the part. A low (<0.3V) to high (>1V) transition on this pin puts the part into power delivery mode. Once the target output voltage is reached, the part will stop (See Datasheet)", 5 VIN (power) "Input Supply Pin. Must be locally bypassed with a good quality ceramic capacitor. Input supply must be 2.5V or higher."

## LT3468ES5-2#TRPBF
designator U?
Photoflash Capacitor Charger, 5-pin SOT23 (S5-5), -40 to 85 degC, Pb-Free, Tape and Reel; Manufacturer: Linear Technology; PartNumber: LT3468ES5-2#TRPBF; Number of Outputs: 1; PackageReference: S5-5; PackageDescription: 5-Pin Plastic TSOT-23, Body 1.63 x 2.90 mm, Pitch 0.95 mm; Supplier 1: Digi-Key; Supplier Part Number 1: LT3468ES5-2#TRPBF-ND; RoHS: TRUE
footprint LT-S5-5-TSOT-23_N (SOT23, 5-Leads, Body 2.90x1.63mm, Pitch 0.95mm, IPC Medium Density)
footprint LT-S5-5-TSOT-23_L (SOT23, 5-Leads, Body 2.90x1.63mm, Pitch 0.95mm, IPC High Density)
footprint LT-S5-5-TSOT-23_M (SOT23, 5-Leads, Body 2.90x1.63mm, Pitch 0.95mm, IPC Low Density)
pins: 1 SW (power) "Switch Pin. This is the collector of the internal NPN Power switch. Minimize the metal trace area connected to this pin to minimize EMI. Tie one side of the primary of the transformer to this pin. The target output voltage (See Datasheet)", 2 GND (power) "Ground. Tie directly to local ground plane", 3 ~{DONE} (oc) "Open NPN Collector Indication Pin. When target output voltage is reached, NPN turns on. This pin needs a pull-up resistor or current source", 4 CHARGE (in) "Charge Pin. This pin must be brought high (>1V) to enable the part. A low (<0.3V) to high (>1V) transition on this pin puts the part into power delivery mode. Once the target output voltage is reached, the part will stop (See Datasheet)", 5 VIN (power) "Input Supply Pin. Must be locally bypassed with a good quality ceramic capacitor. Input supply must be 2.5V or higher."

## LT3469ETS8
designator U?
Piezo Microactuator Driver with Boost Regulator, 8-pin SOT23 (TS8-8), -40 to 85 degC; Manufacturer: Linear Technology; PartNumber: LT3469ETS8; Number of Outputs: 1; PackageReference: TS8-8; PackageDescription: 8-Pin Plastic TSOT-23, Body 2.9 x 1.63 mm, Pitch 0.65 mm; RoHS: FALSE
footprint LT-TS8-8-TSOT-23_V (SOT23, 8-Leads, Body 2.9x1.75mm, Pitch 0.65mm)
pins: 1 OUT (hiz) "Output of the gm Amplifier. There must be at least 5nF of capacitive load at the output in a gain of 10 configuration. Capacitive loads up to 300nF can be connected to this pin. Piezo actuators below 5nF can be driven if (See Datasheet)", 2 FB (in) "Feedback Pin. Reference voltage is 1.23V. Connect feedback resistor divider here.", 3 VIN (power) "Input Supply Pin. Must be locally bypassed.", 4 GND (power) "Ground Pin. Connect directly to local ground plane.", 5 SW "Switch Pin. Connect inductor here. Minimize trace area at this pin to reduce EMI.", 6 VCC (power) "Output of Switching Regulator and Supply Rail for gm Amp. There must be 0.22uF or more of capacitance here.", 7 IN+ (in) "Noninverting Terminal of the gm Amplifier.", 8 IN- (in) "Inverting Terminal of the gm Amplifier."

## LT3469ETS8#PBF
designator U?
Piezo Microactuator Driver with Boost Regulator, 8-pin SOT23 (TS8-8), -40 to 85 degC, Pb-Free; Manufacturer: Linear Technology; PartNumber: LT3469ETS8#PBF; Number of Outputs: 1; PackageReference: TS8-8; PackageDescription: 8-Pin Plastic TSOT-23, Body 2.9 x 1.63 mm, Pitch 0.65 mm; Supplier 1: Newark; Supplier Part Number 1: 78T4001; RoHS: TRUE
footprint LT-TS8-8-TSOT-23_V (SOT23, 8-Leads, Body 2.9x1.75mm, Pitch 0.65mm)
pins: 1 OUT (hiz) "Output of the gm Amplifier. There must be at least 5nF of capacitive load at the output in a gain of 10 configuration. Capacitive loads up to 300nF can be connected to this pin. Piezo actuators below 5nF can be driven if (See Datasheet)", 2 FB (in) "Feedback Pin. Reference voltage is 1.23V. Connect feedback resistor divider here.", 3 VIN (power) "Input Supply Pin. Must be locally bypassed.", 4 GND (power) "Ground Pin. Connect directly to local ground plane.", 5 SW "Switch Pin. Connect inductor here. Minimize trace area at this pin to reduce EMI.", 6 VCC (power) "Output of Switching Regulator and Supply Rail for gm Amp. There must be 0.22uF or more of capacitance here.", 7 IN+ (in) "Noninverting Terminal of the gm Amplifier.", 8 IN- (in) "Inverting Terminal of the gm Amplifier."

## LT3469ETS8#TR
designator U?
Piezo Microactuator Driver with Boost Regulator, 8-pin SOT23 (TS8-8), -40 to 85 degC, Tape and Reel; Manufacturer: Linear Technology; PartNumber: LT3469ETS8#TR; Number of Outputs: 1; PackageReference: TS8-8; PackageDescription: 8-Pin Plastic TSOT-23, Body 2.9 x 1.63 mm, Pitch 0.65 mm; Supplier 1: Digi-Key; Supplier Part Number 1: LT3469ETS8#TR-ND; RoHS: FALSE
footprint LT-TS8-8-TSOT-23_V (SOT23, 8-Leads, Body 2.9x1.75mm, Pitch 0.65mm)
pins: 1 OUT (hiz) "Output of the gm Amplifier. There must be at least 5nF of capacitive load at the output in a gain of 10 configuration. Capacitive loads up to 300nF can be connected to this pin. Piezo actuators below 5nF can be driven if (See Datasheet)", 2 FB (in) "Feedback Pin. Reference voltage is 1.23V. Connect feedback resistor divider here.", 3 VIN (power) "Input Supply Pin. Must be locally bypassed.", 4 GND (power) "Ground Pin. Connect directly to local ground plane.", 5 SW "Switch Pin. Connect inductor here. Minimize trace area at this pin to reduce EMI.", 6 VCC (power) "Output of Switching Regulator and Supply Rail for gm Amp. There must be 0.22uF or more of capacitance here.", 7 IN+ (in) "Noninverting Terminal of the gm Amplifier.", 8 IN- (in) "Inverting Terminal of the gm Amplifier."

## LT3469ETS8#TRM
designator U?
Piezo Microactuator Driver with Boost Regulator, 8-pin SOT23 (TS8-8), -40 to 85 degC, Mini Tape and Reel; Manufacturer: Linear Technology; PartNumber: LT3469ETS8#TRM; Number of Outputs: 1; PackageReference: TS8-8; PackageDescription: 8-Pin Plastic TSOT-23, Body 2.9 x 1.63 mm, Pitch 0.65 mm; Supplier 1: Digi-Key; Supplier Part Number 1: LT3469ETS8#TRM-ND; RoHS: FALSE
footprint LT-TS8-8-TSOT-23_V (SOT23, 8-Leads, Body 2.9x1.75mm, Pitch 0.65mm)
pins: 1 OUT (hiz) "Output of the gm Amplifier. There must be at least 5nF of capacitive load at the output in a gain of 10 configuration. Capacitive loads up to 300nF can be connected to this pin. Piezo actuators below 5nF can be driven if (See Datasheet)", 2 FB (in) "Feedback Pin. Reference voltage is 1.23V. Connect feedback resistor divider here.", 3 VIN (power) "Input Supply Pin. Must be locally bypassed.", 4 GND (power) "Ground Pin. Connect directly to local ground plane.", 5 SW "Switch Pin. Connect inductor here. Minimize trace area at this pin to reduce EMI.", 6 VCC (power) "Output of Switching Regulator and Supply Rail for gm Amp. There must be 0.22uF or more of capacitance here.", 7 IN+ (in) "Noninverting Terminal of the gm Amplifier.", 8 IN- (in) "Inverting Terminal of the gm Amplifier."

## LT3469ETS8#TRMPBF
designator U?
Piezo Microactuator Driver with Boost Regulator, 8-pin SOT23 (TS8-8), -40 to 85 degC, Pb-Free, Mini Tape and Reel; Manufacturer: Linear Technology; PartNumber: LT3469ETS8#TRMPBF; Number of Outputs: 1; PackageReference: TS8-8; PackageDescription: 8-Pin Plastic TSOT-23, Body 2.9 x 1.63 mm, Pitch 0.65 mm; Supplier 1: Digi-Key; Supplier Part Number 1: LT3469ETS8#TRMPBFTR-ND; RoHS: TRUE
footprint LT-TS8-8-TSOT-23_V (SOT23, 8-Leads, Body 2.9x1.75mm, Pitch 0.65mm)
pins: 1 OUT (hiz) "Output of the gm Amplifier. There must be at least 5nF of capacitive load at the output in a gain of 10 configuration. Capacitive loads up to 300nF can be connected to this pin. Piezo actuators below 5nF can be driven if (See Datasheet)", 2 FB (in) "Feedback Pin. Reference voltage is 1.23V. Connect feedback resistor divider here.", 3 VIN (power) "Input Supply Pin. Must be locally bypassed.", 4 GND (power) "Ground Pin. Connect directly to local ground plane.", 5 SW "Switch Pin. Connect inductor here. Minimize trace area at this pin to reduce EMI.", 6 VCC (power) "Output of Switching Regulator and Supply Rail for gm Amp. There must be 0.22uF or more of capacitance here.", 7 IN+ (in) "Noninverting Terminal of the gm Amplifier.", 8 IN- (in) "Inverting Terminal of the gm Amplifier."

## LT3469ETS8#TRPBF
designator U?
Piezo Microactuator Driver with Boost Regulator, 8-pin SOT23 (TS8-8), -40 to 85 degC, Pb-Free, Tape and Reel; Manufacturer: Linear Technology; PartNumber: LT3469ETS8#TRPBF; Number of Outputs: 1; PackageReference: TS8-8; PackageDescription: 8-Pin Plastic TSOT-23, Body 2.9 x 1.63 mm, Pitch 0.65 mm; Supplier 1: Digi-Key; Supplier Part Number 1: LT3469ETS8#TRPBF-ND; RoHS: TRUE
footprint LT-TS8-8-TSOT-23_V (SOT23, 8-Leads, Body 2.9x1.75mm, Pitch 0.65mm)
pins: 1 OUT (hiz) "Output of the gm Amplifier. There must be at least 5nF of capacitive load at the output in a gain of 10 configuration. Capacitive loads up to 300nF can be connected to this pin. Piezo actuators below 5nF can be driven if (See Datasheet)", 2 FB (in) "Feedback Pin. Reference voltage is 1.23V. Connect feedback resistor divider here.", 3 VIN (power) "Input Supply Pin. Must be locally bypassed.", 4 GND (power) "Ground Pin. Connect directly to local ground plane.", 5 SW "Switch Pin. Connect inductor here. Minimize trace area at this pin to reduce EMI.", 6 VCC (power) "Output of Switching Regulator and Supply Rail for gm Amp. There must be 0.22uF or more of capacitance here.", 7 IN+ (in) "Noninverting Terminal of the gm Amplifier.", 8 IN- (in) "Inverting Terminal of the gm Amplifier."

## LT3470AEDDB#PBF
designator U?
Micropower Buck Regulator with Integrated Boost and Catch Diode, 8-pin SON (DDB-8), -40 to 85 degC, Pb-Free; Manufacturer: Linear Technology; PartNumber: LT3470AEDDB#PBF; Number of Outputs: 1; PackageReference: DDB-8; PackageDescription: 8-Pin Plastic DFN, Body 3 x 2 mm, Pitch 0.5 mm; Supplier 1: Newark; Supplier Part Number 1: 51P3493; RoHS: TRUE
footprint LT-DDB-8_V (SON, 8-Leads, Body 3x2mm, Pitch 0.5mm, Thermal Pad 2.2x0.61mm)
pins: 1 FB (in) "The LT3470X regulates its feedback pin to 1.25V. Connect the feedback resistor divider tap to this pin. Set the output voltage according to VOUT = 1.25V (1 + R1/R2) or R1 = R2 (VOUT/1.25 - 1).", 2 BIAS (power) "The BIAS pin connects to the internal boost Schottky diode and to the internal regulator. Tie to VOUT when VOUT > 2.5V or to VIN otherwise. When VBIAS > 3V the BIAS pin will supply current to the internal regulator.", 3 BOOST "The BOOST pin is used to provide a drive voltage, which is higher than the input voltage, to the internal bipolar NPN power switch.", 4 SW (power) "The SW pin is the output of the internal power switch. Connect this pin to the inductor, catch diode and boost capacitor.", 5 GND (power) "Tie the GND pin to a local ground plane below the LT3470X and the circuit components. Return the feedback divider to this pin.", 6 VIN (power) "The VIN pin supplies current to the LT3470X’s internal regulator and to the internal power switch. This pin must be locally bypassed.", 7 NC "This pin can be left floating, connected to VIN, or tied to GND.", 8 ~{SHDN} (in) "The S\H\D\N\ pin is used to put the LT3470X in shutdown mode. Tie to ground to shut down the LT3470A. Apply 2V or more for normal operation. If the shutdown feature is not used, tie this pin to the VIN pin.", 9 EP (power) "Ground. Must be soldered to PCB."

## LT3470AEDDB#TRMPBF
designator U?
Micropower Buck Regulator with Integrated Boost and Catch Diode, 8-pin SON (DDB-8), -40 to 85 degC, Pb-Free, Mini Tape and Reel; Manufacturer: Linear Technology; PartNumber: LT3470AEDDB#TRMPBF; Number of Outputs: 1; PackageReference: DDB-8; PackageDescription: 8-Pin Plastic DFN, Body 3 x 2 mm, Pitch 0.5 mm; Supplier 1: Digi-Key; Supplier Part Number 1: LT3470AEDDB#TRMPBF-ND; RoHS: TRUE
footprint LT-DDB-8_V (SON, 8-Leads, Body 3x2mm, Pitch 0.5mm, Thermal Pad 2.2x0.61mm)
pins: 1 FB (in) "The LT3470X regulates its feedback pin to 1.25V. Connect the feedback resistor divider tap to this pin. Set the output voltage according to VOUT = 1.25V (1 + R1/R2) or R1 = R2 (VOUT/1.25 - 1).", 2 BIAS (power) "The BIAS pin connects to the internal boost Schottky diode and to the internal regulator. Tie to VOUT when VOUT > 2.5V or to VIN otherwise. When VBIAS > 3V the BIAS pin will supply current to the internal regulator.", 3 BOOST "The BOOST pin is used to provide a drive voltage, which is higher than the input voltage, to the internal bipolar NPN power switch.", 4 SW (power) "The SW pin is the output of the internal power switch. Connect this pin to the inductor, catch diode and boost capacitor.", 5 GND (power) "Tie the GND pin to a local ground plane below the LT3470X and the circuit components. Return the feedback divider to this pin.", 6 VIN (power) "The VIN pin supplies current to the LT3470X’s internal regulator and to the internal power switch. This pin must be locally bypassed.", 7 NC "This pin can be left floating, connected to VIN, or tied to GND.", 8 ~{SHDN} (in) "The S\H\D\N\ pin is used to put the LT3470X in shutdown mode. Tie to ground to shut down the LT3470A. Apply 2V or more for normal operation. If the shutdown feature is not used, tie this pin to the VIN pin.", 9 EP (power) "Ground. Must be soldered to PCB."

## LT3470AEDDB#TRPBF
designator U?
Micropower Buck Regulator with Integrated Boost and Catch Diode, 8-pin SON (DDB-8), -40 to 85 degC, Pb-Free, Tape and Reel; Manufacturer: Linear Technology; PartNumber: LT3470AEDDB#TRPBF; Number of Outputs: 1; PackageReference: DDB-8; PackageDescription: 8-Pin Plastic DFN, Body 3 x 2 mm, Pitch 0.5 mm; Supplier 1: Digi-Key; Supplier Part Number 1: LT3470AEDDB#TRPBF-ND; RoHS: TRUE
footprint LT-DDB-8_V (SON, 8-Leads, Body 3x2mm, Pitch 0.5mm, Thermal Pad 2.2x0.61mm)
pins: 1 FB (in) "The LT3470X regulates its feedback pin to 1.25V. Connect the feedback resistor divider tap to this pin. Set the output voltage according to VOUT = 1.25V (1 + R1/R2) or R1 = R2 (VOUT/1.25 - 1).", 2 BIAS (power) "The BIAS pin connects to the internal boost Schottky diode and to the internal regulator. Tie to VOUT when VOUT > 2.5V or to VIN otherwise. When VBIAS > 3V the BIAS pin will supply current to the internal regulator.", 3 BOOST "The BOOST pin is used to provide a drive voltage, which is higher than the input voltage, to the internal bipolar NPN power switch.", 4 SW (power) "The SW pin is the output of the internal power switch. Connect this pin to the inductor, catch diode and boost capacitor.", 5 GND (power) "Tie the GND pin to a local ground plane below the LT3470X and the circuit components. Return the feedback divider to this pin.", 6 VIN (power) "The VIN pin supplies current to the LT3470X’s internal regulator and to the internal power switch. This pin must be locally bypassed.", 7 NC "This pin can be left floating, connected to VIN, or tied to GND.", 8 ~{SHDN} (in) "The S\H\D\N\ pin is used to put the LT3470X in shutdown mode. Tie to ground to shut down the LT3470A. Apply 2V or more for normal operation. If the shutdown feature is not used, tie this pin to the VIN pin.", 9 EP (power) "Ground. Must be soldered to PCB."

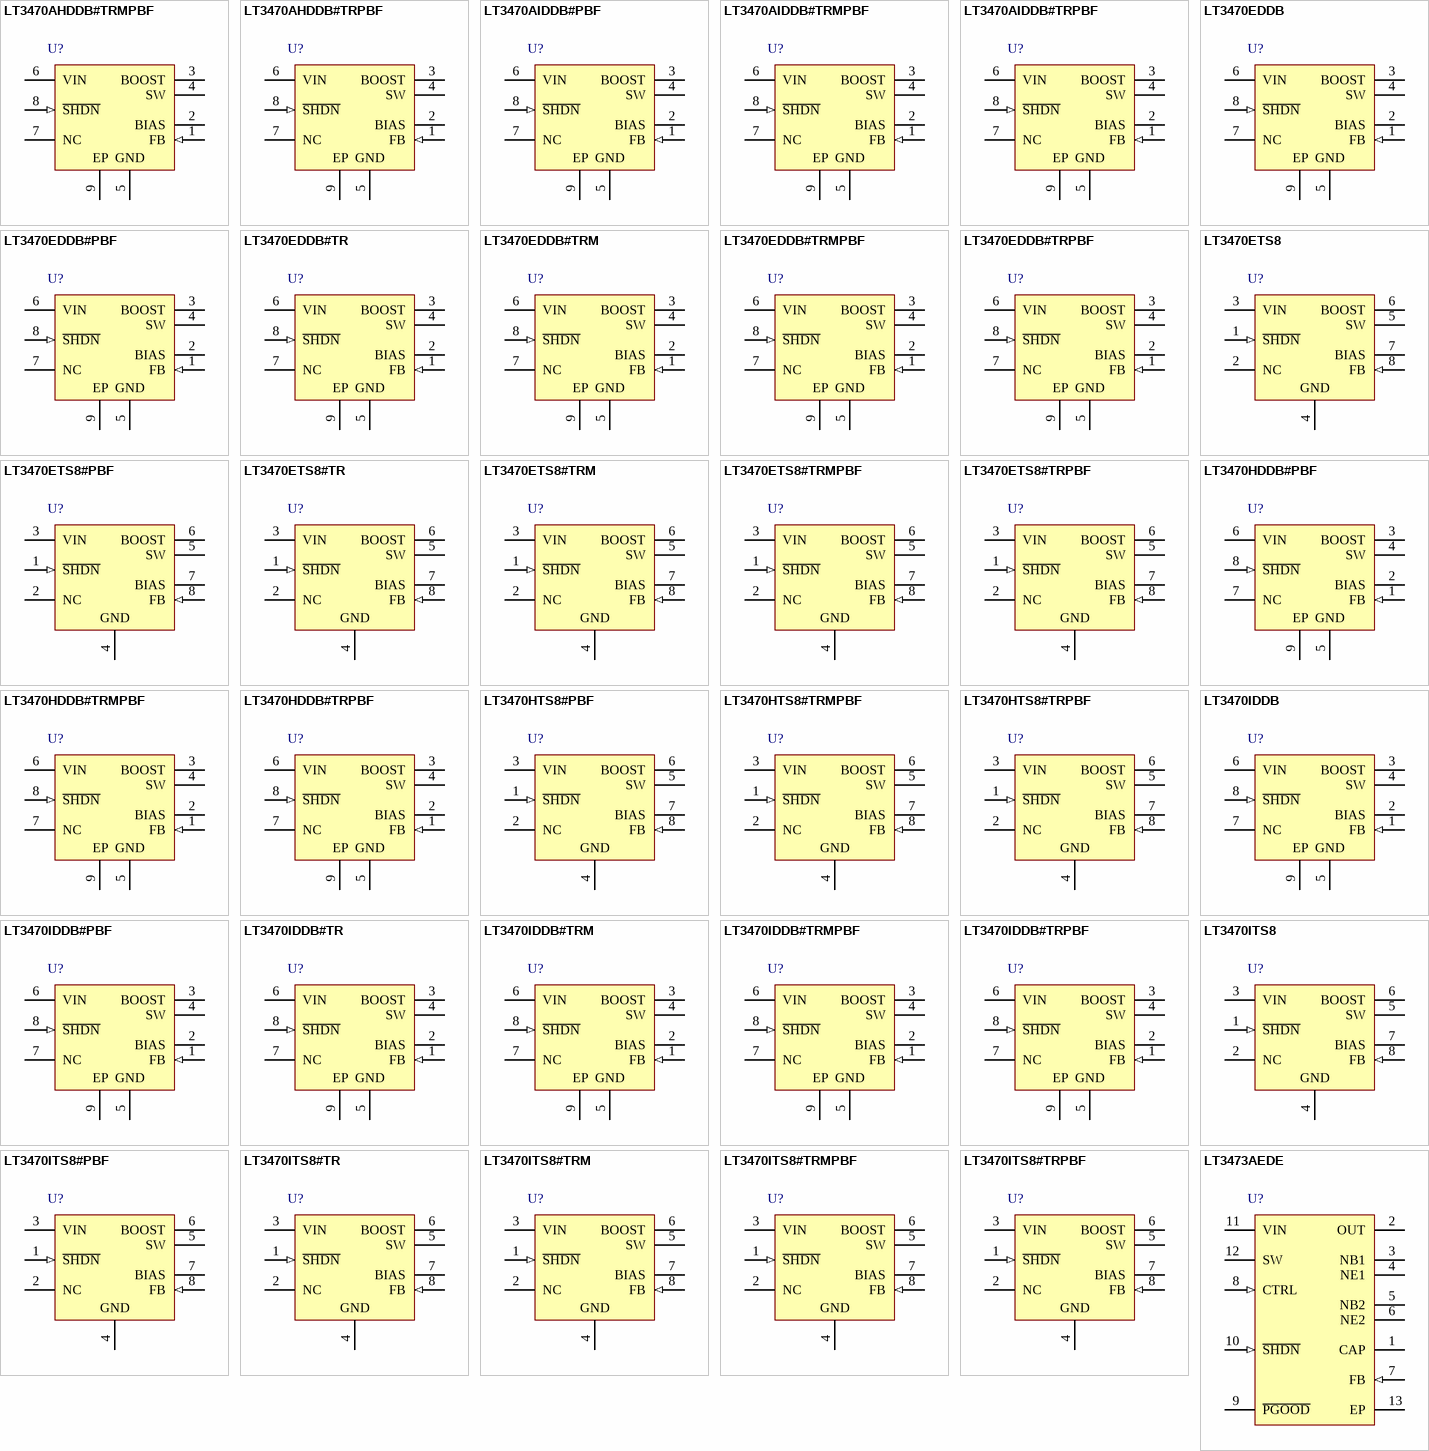
[diagram p38: symbols LT3470AHDDB#TRMPBF to LT3473AEDE]

## LT3470AHDDB#TRMPBF
designator U?
Micropower Buck Regulator with Integrated Boost and Catch Diode, 8-pin SON (DDB-8), -40 to 150 degC, Pb-Free, Mini Tape and Reel; Manufacturer: Linear Technology; PartNumber: LT3470AHDDB#TRMPBF; Number of Outputs: 1; PackageReference: DDB-8; PackageDescription: 8-Pin Plastic DFN, Body 3 x 2 mm, Pitch 0.5 mm; Supplier 1: Digi-Key; Supplier Part Number 1: LT3470AHDDB#TRMPBF-ND; RoHS: TRUE
footprint LT-DDB-8_V (SON, 8-Leads, Body 3x2mm, Pitch 0.5mm, Thermal Pad 2.2x0.61mm)
pins: 1 FB (in) "The LT3470X regulates its feedback pin to 1.25V. Connect the feedback resistor divider tap to this pin. Set the output voltage according to VOUT = 1.25V (1 + R1/R2) or R1 = R2 (VOUT/1.25 - 1).", 2 BIAS (power) "The BIAS pin connects to the internal boost Schottky diode and to the internal regulator. Tie to VOUT when VOUT > 2.5V or to VIN otherwise. When VBIAS > 3V the BIAS pin will supply current to the internal regulator.", 3 BOOST "The BOOST pin is used to provide a drive voltage, which is higher than the input voltage, to the internal bipolar NPN power switch.", 4 SW (power) "The SW pin is the output of the internal power switch. Connect this pin to the inductor, catch diode and boost capacitor.", 5 GND (power) "Tie the GND pin to a local ground plane below the LT3470X and the circuit components. Return the feedback divider to this pin.", 6 VIN (power) "The VIN pin supplies current to the LT3470X’s internal regulator and to the internal power switch. This pin must be locally bypassed.", 7 NC "This pin can be left floating, connected to VIN, or tied to GND.", 8 ~{SHDN} (in) "The S\H\D\N\ pin is used to put the LT3470X in shutdown mode. Tie to ground to shut down the LT3470A. Apply 2V or more for normal operation. If the shutdown feature is not used, tie this pin to the VIN pin.", 9 EP (power) "Ground. Must be soldered to PCB."

## LT3470AHDDB#TRPBF
designator U?
Micropower Buck Regulator with Integrated Boost and Catch Diode, 8-pin SON (DDB-8), -40 to 150 degC, Pb-Free, Tape and Reel; Manufacturer: Linear Technology; PartNumber: LT3470AHDDB#TRPBF; Number of Outputs: 1; PackageReference: DDB-8; PackageDescription: 8-Pin Plastic DFN, Body 3 x 2 mm, Pitch 0.5 mm; Supplier 1: Digi-Key; Supplier Part Number 1: LT3470AHDDB#TRPBF-ND; RoHS: TRUE
footprint LT-DDB-8_V (SON, 8-Leads, Body 3x2mm, Pitch 0.5mm, Thermal Pad 2.2x0.61mm)
pins: 1 FB (in) "The LT3470X regulates its feedback pin to 1.25V. Connect the feedback resistor divider tap to this pin. Set the output voltage according to VOUT = 1.25V (1 + R1/R2) or R1 = R2 (VOUT/1.25 - 1).", 2 BIAS (power) "The BIAS pin connects to the internal boost Schottky diode and to the internal regulator. Tie to VOUT when VOUT > 2.5V or to VIN otherwise. When VBIAS > 3V the BIAS pin will supply current to the internal regulator.", 3 BOOST "The BOOST pin is used to provide a drive voltage, which is higher than the input voltage, to the internal bipolar NPN power switch.", 4 SW (power) "The SW pin is the output of the internal power switch. Connect this pin to the inductor, catch diode and boost capacitor.", 5 GND (power) "Tie the GND pin to a local ground plane below the LT3470X and the circuit components. Return the feedback divider to this pin.", 6 VIN (power) "The VIN pin supplies current to the LT3470X’s internal regulator and to the internal power switch. This pin must be locally bypassed.", 7 NC "This pin can be left floating, connected to VIN, or tied to GND.", 8 ~{SHDN} (in) "The S\H\D\N\ pin is used to put the LT3470X in shutdown mode. Tie to ground to shut down the LT3470A. Apply 2V or more for normal operation. If the shutdown feature is not used, tie this pin to the VIN pin.", 9 EP (power) "Ground. Must be soldered to PCB."